# EAGLE library part SX70-SONAR-PAD-HOLES (library _openSX70)
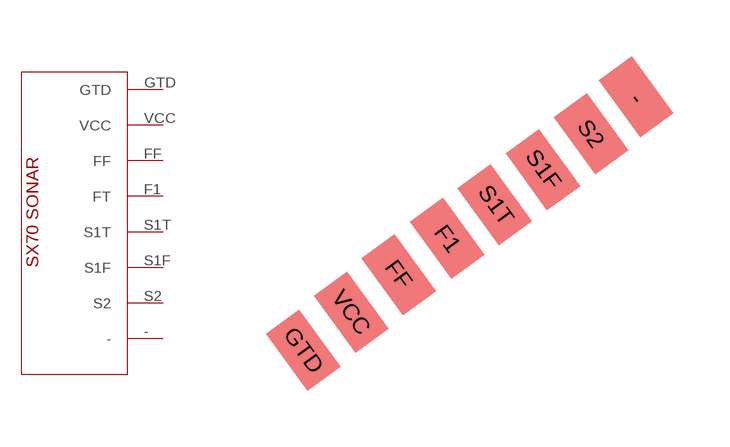
[diagram p13: symbol with the pads of SX70-SONAR-PAD; footprint SX70-SONAR-PAD]

Designator prefix -

## SX70-SONAR-PAD-HOLES  [SX70-SONAR-PAD]
-  -
F1  FT
FF  FF
GTD  GTD
S1F  S1F
S1T  S1T
S2  S2
VCC  VCC

## Footprint SX70-SONAR-PAD (pad centres in mm)
smd 1.27 x 0.635 rotated 126: - 3.823,2.845; F1 -1.245,-0.902; FF -2.553,-1.854; GTD -5.093,-3.886; S1F 1.321,0.953; S1T 0.051,0; S2 2.591,1.905; VCC -3.823,-2.87